# Altium footprint library EA2025MA1016000MTR.PcbLib: 1 footprints
Each footprint in its own frame and in the unit in brackets; x right, y up, seen from the top. Pads: shape width x height; smd on the part's side, far side on the other; paste and mask are expansions set on the pad; w line width, h text height; cw(c..) or ccw(c..) is an arc to the next point about the centre after c.
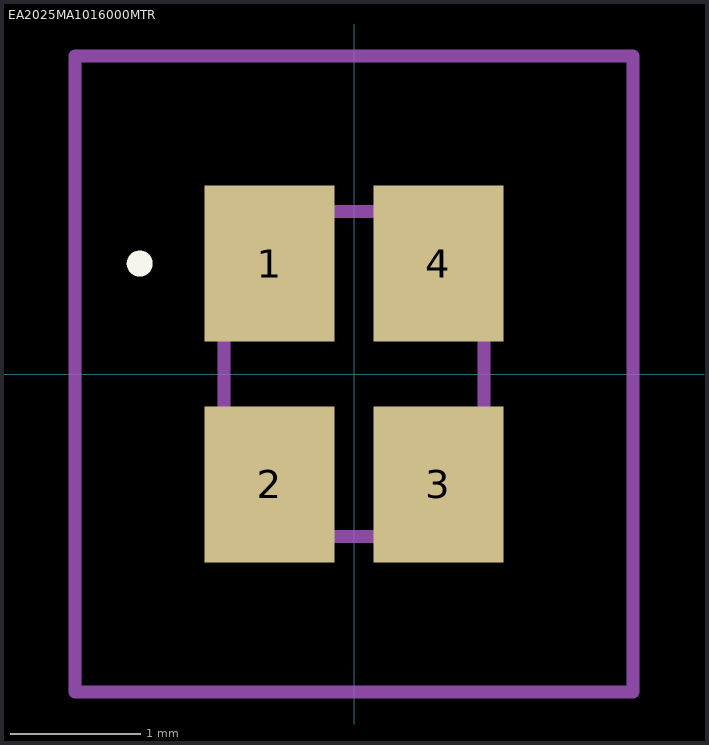
[diagram p0: the footprint, top view; thin cyan lines are the x and y axes]

## EA2025MA1016000MTR [mm]
pads (4):
  rect 1x1.2 smd: 1(-0.65,0.85) 2(-0.65,-0.85) 3(0.65,-0.85) 4(0.65,0.85)
Top Overlay:
  lines w0.1: -1.7,0.85 cw(c-1.65,0.85) -1.6,0.85 ; -1.7,0.85 -1.7,0.85 ; -1.7,0.85 ccw(c-1.65,0.85) -1.6,0.85 ; -1.6,0.85 -1.6,0.85
Mechanical 15:
  lines w0.1: -1,-1.25 1,-1.25 1,1.25 -1,1.25 -1,-1.25
Mechanical 20:
  lines w0.1: -2.15,-2.45 2.15,-2.45 2.15,2.45 -2.15,2.45 -2.15,-2.45